# Altium footprint library MXA20A_N.PcbLib: 1 footprints
Each footprint in its own frame and in the unit in brackets; x right, y up, seen from the top. Pads: shape width x height; smd on the part's side, far side on the other; paste and mask are expansions set on the pad; w line width, h text height; cw(c..) or ccw(c..) is an arc to the next point about the centre after c.
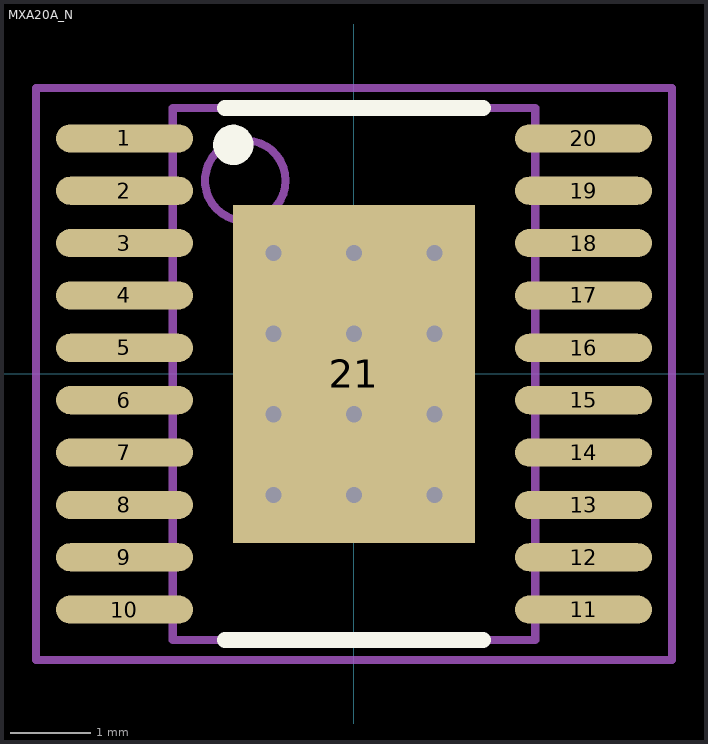
[diagram p0: the footprint, top view; thin cyan lines are the x and y axes]

## MXA20A_N [mm] "TSOP, 20-Leads, Body 6.5x4.4mm, Pitch 0.65mm, Exposed Pad, IPC Medium Density"
height 1.1
pads (21):
  oval 1.7x0.35 smd: 1(-2.85,2.925) 2(-2.85,2.275) 3(-2.85,1.625) 4(-2.85,0.975) 5(-2.85,0.325) 6(-2.85,-0.325) 7(-2.85,-0.975) 8(-2.85,-1.625) 9(-2.85,-2.275) 10(-2.85,-2.925) 11(2.85,-2.925) 12(2.85,-2.275) 13(2.85,-1.625) 14(2.85,-0.975) 15(2.85,-0.325) 16(2.85,0.325) 17(2.85,0.975) 18(2.85,1.625) 19(2.85,2.275) 20(2.85,2.925)
  rect 3x4.2 smd: 21(0,0)
via 0,1.5 diameter 0.5 hole 0.2
via 1,1.5 diameter 0.5 hole 0.2
via -1,1.5 diameter 0.5 hole 0.2
via -1,0.5 diameter 0.5 hole 0.2
via -1,-0.5 diameter 0.5 hole 0.2
via -1,-1.5 diameter 0.5 hole 0.2
via 1,-1.5 diameter 0.5 hole 0.2
via 0,-1.5 diameter 0.5 hole 0.2
via 1,-0.5 diameter 0.5 hole 0.2
via 0,-0.5 diameter 0.5 hole 0.2
via 1,0.5 diameter 0.5 hole 0.2
via 0,0.5 diameter 0.5 hole 0.2
Top Overlay:
  circle w0.25: c-1.499,2.845 r0.125
  lines w0.2: -1.6,-3.3 1.6,-3.3 ; -1.6,3.3 1.6,3.3
Mechanical 13:
  circle w0.1: c-1.35,2.4 r0.5
  lines w0.1: -2.25,-3.3 2.25,-3.3 2.25,3.3 -2.25,3.3 -2.25,-3.3
Mechanical 15:
  lines w0.1: -0.5,0 0.5,0 ; 0,-0.5 0,0.5 ; -3.95,-3.55 3.95,-3.55 3.95,3.55 -3.95,3.55 -3.95,-3.55
3D body: height 1.1, standoff 0, extent -2.25,-3.3 2.25,3.3